# Altium integrated library Mcu.IntLib: 1 symbol
Pins are listed as number, name and electrical type; pins without a type are passive.

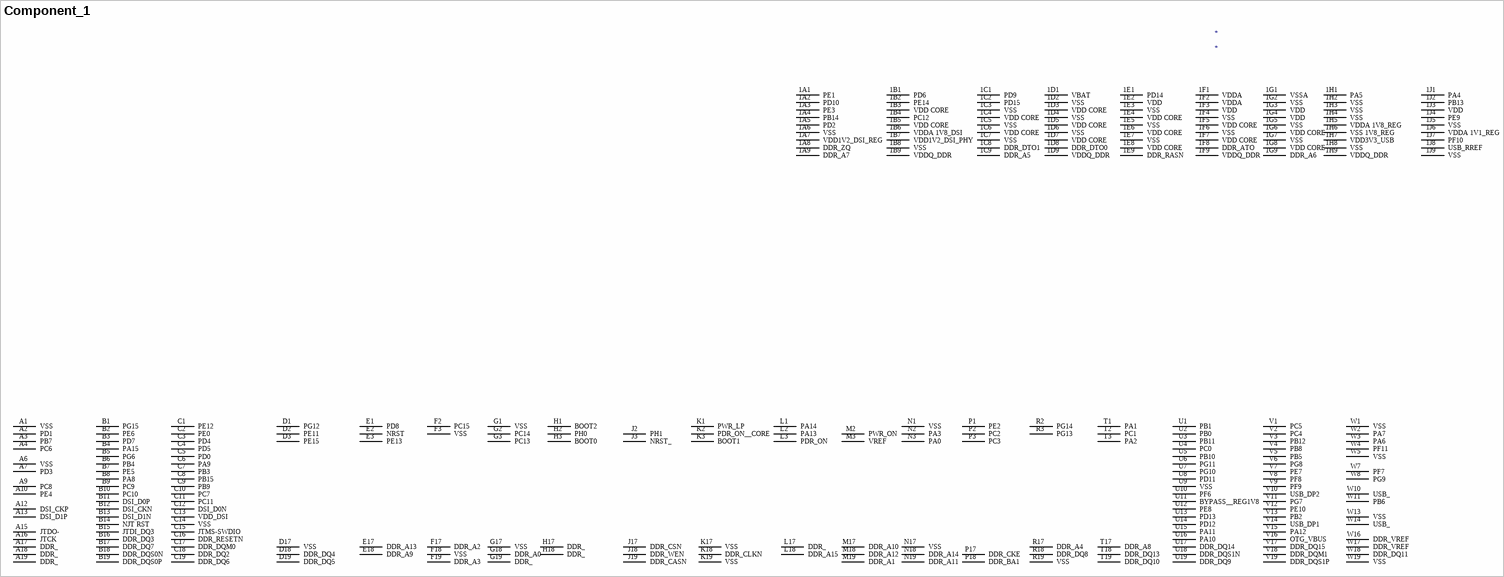
[diagram p0: symbol Component_1]

## Component_1
designator *
footprint TFBGA257_10X10
pins: 1A1 PE1, 1A2 PD10, 1A3 PE3, 1A4 PB14, 1A5 PD2, 1A6 VSS, 1A7 VDD1V2_DSI_REG, 1A8 DDR_ZQ, 1A9 DDR_A7, 1B1 PD6, 1B2 PE14, 1B3 VDD CORE, 1B4 PC12, 1B5 VDD CORE, 1B6 VDDA 1V8_DSI, 1B7 VDD1V2_DSI_PHY, 1B8 VSS, 1B9 VDDQ_DDR, 1C1 PD9, 1C2 PD15, 1C3 VSS, 1C4 VDD CORE, 1C5 VSS, 1C6 VDD CORE, 1C7 VSS, 1C8 DDR_DTO1, 1C9 DDR_A5, 1D1 VBAT, 1D2 VSS, 1D3 VDD CORE, 1D4 VSS, 1D5 VDD CORE, 1D6 VSS, 1D7 VDD CORE, 1D8 DDR_DTO0, 1D9 VDDQ_DDR, 1E1 PD14, 1E2 VDD, 1E3 VSS, 1E4 VDD CORE, 1E5 VSS, 1E6 VDD CORE, 1E7 VSS, 1E8 VDD CORE, 1E9 DDR_RASN, 1F1 VDDA, 1F2 VDDA, 1F3 VDD, 1F4 VSS, 1F5 VDD CORE, 1F6 VSS, 1F7 VDD CORE, 1F8 DDR_ATO, 1F9 VDDQ_DDR, 1G1 VSSA, 1G2 VSS, 1G3 VDD, 1G4 VDD, 1G5 VSS, 1G6 VDD CORE, 1G7 VSS, 1G8 VDD CORE, 1G9 DDR_A6, 1H1 PA5, 1H2 VSS, 1H3 VSS, 1H4 VSS, 1H5 VDDA 1V8_REG, 1H6 VSS 1V8_REG, 1H7 VDD3V3_USB, 1H8 VSS, 1H9 VDDQ_DDR, 1J1 PA4, 1J2 PB13, 1J3 VDD, 1J4 PE9, 1J5 VSS, 1J6 VDDA 1V1_REG, 1J7 PF10, 1J8 USB_RREF, 1J9 VSS, A1 VSS, A2 PD1, A3 PB7, A4 PC6, A6 VSS, A7 PD3, A9 PC8, A10 PE4, A12 DSI_CKP, A13 DSI_D1P, A15 JTDO-, A16 JTCK, A17 DDR_, A18 DDR_, A19 DDR_, B1 PG15, B2 PE6, B3 PD7, B4 PA15, B5 PG6, B6 PB4, B7 PE5, B8 PA8, B9 PC9, B10 PC10, B11 DSI_D0P, B12 DSI_CKN, B13 DSI_D1N, B14 NJT RST, B15 JTDI_DQ3, B16 DDR_DQ3, B17 DDR_DQ7, B18 DDR_DQS0N, B19 DDR_DQS0P, C1 PE12, C2 PE0, C3 PD4, C4 PD5, C5 PD0, C6 PA9, C7 PB3, C8 PB15, C9 PB9, C10 PC7, C11 PC11, C12 DSI_D0N, C13 VDD_DSI, C14 VSS, C15 JTMS-SWDIO, C16 DDR_RESETN, C17 DDR_DQM0, C18 DDR_DQ2, C19 DDR_DQ6, D1 PG12, D2 PE11, D3 PE15, D17 VSS, D18 DDR_DQ4, D19 DDR_DQ5, E1 PD8, E2 NRST, E3 PE13, E17 DDR_A13, E18 DDR_A9, F2 PC15, F3 VSS, F17 DDR_A2, F18 VSS, F19 DDR_A3, G1 VSS, G2 PC14, G3 PC13, G17 VSS, G18 DDR_A0, G19 DDR_, H1 BOOT2, H2 PH0, H3 BOOT0, H17 DDR_, H18 DDR_, J2 PH1, J3 NRST_, J17 DDR_CSN, J18 DDR_WEN, J19 DDR_CASN, K1 PWR_LP, K2 PDR_ON__CORE, K3 BOOT1, K17 VSS, K18 DDR_CLKN, K19 VSS, L1 PA14, L2 PA13, L3 PDR_ON, L17 DDR_, L18 DDR_A15, M2 PWR_ON, M3 VREF, M17 DDR_A10, M18 DDR_A12, M19 DDR_A1, N1 VSS, N2 PA3, N3 PA0, N17 VSS, N18 DDR_A14, N19 DDR_A11, P1 PE2, P2 PC2, P3 PC3, P17 DDR_CKE, P18 DDR_BA1, R2 PG14, R3 PG13, R17 DDR_A4, R18 DDR_DQ8, R19 VSS, T1 PA1, T2 PC1, T3 PA2, T17 DDR_A8, T18 DDR_DQ13, T19 DDR_DQ10, U1 PB1, U2 PB0, U3 PB11, U4 PC0, U5 PB10, U6 PG11, U7 PG10, U8 PD11, U9 VSS, U10 PF6, U11 BYPASS__REG1V8, U12 PE8, U13 PD13, U14 PD12, U15 PA11, U16 PA10, U17 DDR_DQ14, U18 DDR_DQS1N, U19 DDR_DQ9, V1 PC5, V2 PC4, V3 PB12, V4 PB8, V5 PB5, V6 PG8, V7 PE7, V8 PF8, V9 PF9, V10 USB_DP2, V11 PG7, V12 PE10, V13 PB2, V14 USB_DP1, V15 PA12, V16 OTG_VBUS, V17 DDR_DQ15, V18 DDR_DQM1, V19 DDR_DQS1P, W1 VSS, W2 PA7, W3 PA6, W4 PF11, W5 VSS, W7 PF7, W8 PG9, W10 USB_, W11 PB6, W13 VSS, W14 USB_, W16 DDR_VREF, W17 DDR_VREF, W18 DDR_DQ11, W19 VSS